# EAGLE library part MOLEX_53?-06 (library r2p_connector)
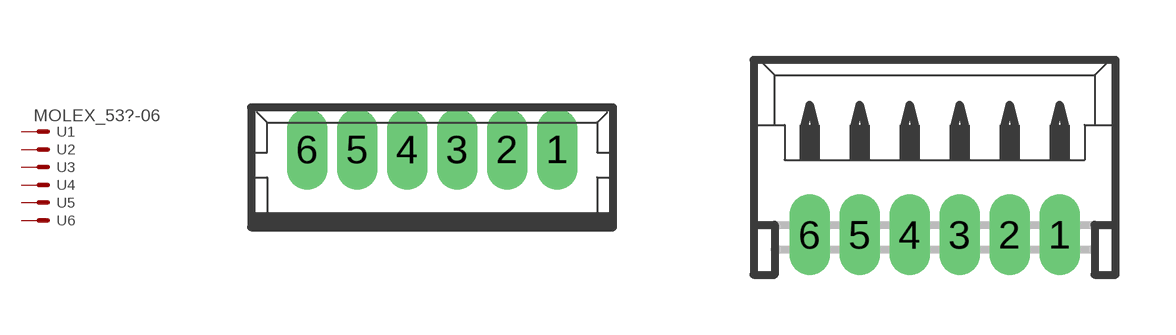
[diagram p1: symbol with the pads of MOLEX_53047-06; footprints MOLEX_53047-06, MOLEX_53048-06]

Designator prefix -; gates 1=PIN+VALUE 2=PIN 3=PIN 4=PIN 5=PIN 6=PIN

## MOLEX_53047-06  [MOLEX_53047-06]
1  1:S  pas
2  2:S  pas
3  3:S  pas
4  4:S  pas
5  5:S  pas
6  6:S  pas

## MOLEX_53048-06  [MOLEX_53048-06]
Pads as for MOLEX_53047-06

## MOLEX_53261-06  [MOLEX_53261-06]
Pads as for MOLEX_53047-06

## MOLEX_53398-06  [MOLEX_53398-06]
Pads as for MOLEX_53047-06

## Footprint MOLEX_53047-06 (pad centres in mm)
CONNECTOR wire to board 1.25 mm (.049 inch) pitch header straight Sourcxe: http://www.molex.com/pdm_docs/sd/530470210_sd.pdf
drill 0.5 pad 0.698 long: 1 3.125,0.45; 2 1.875,0.45; 3 0.625,0.45; 4 -0.625,0.45; 5 -1.875,0.45; 6 -3.125,0.45

## Footprint MOLEX_53048-06 (pad centres in mm)
CONNECTOR wire to board 1.25 mm (.049 inch) pitch header right angle
drill 0.5 pad 0.698 long: 1 3.125,-1.25; 2 1.875,-1.25; 3 0.625,-1.25; 4 -0.625,-1.25; 5 -1.875,-1.25; 6 -3.125,-1.25

## Footprint MOLEX_53261-06 (pad centres in mm)
CONNECTOR wire to board 1.25 mm (.049 inch) pitch header SMT right angle
smd 0.8 x 2: 1 3.125,-2.5; 2 1.875,-2.5; 3 0.625,-2.5; 4 -0.625,-2.5; 5 -1.875,-2.5; 6 -3.125,-2.5
smd 2.1 x 3: S1 5.625,0.625; S2 -5.625,0.625

## Footprint MOLEX_53398-06 (pad centres in mm)
CONNECTOR wire to board 1.25 mm (.049 inch) pitch header SMT straight
smd 0.8 x 1.8: 1 3.125,-2.5; 2 1.875,-2.5; 3 0.625,-2.5; 4 -0.625,-2.5; 5 -1.875,-2.5; 6 -3.125,-2.5
smd 2.1 x 3: S1 5.625,0.625; S2 -5.625,0.625